# Altium footprint library VioletofSun.PcbLib: 319 footprints (part 3 of 20)
Each footprint in its own frame and in the unit in brackets; x right, y up, seen from the top. Pads: shape width x height; smd on the part's side, far side on the other; paste and mask are expansions set on the pad; w line width, h text height; cw(c..) or ccw(c..) is an arc to the next point about the centre after c.
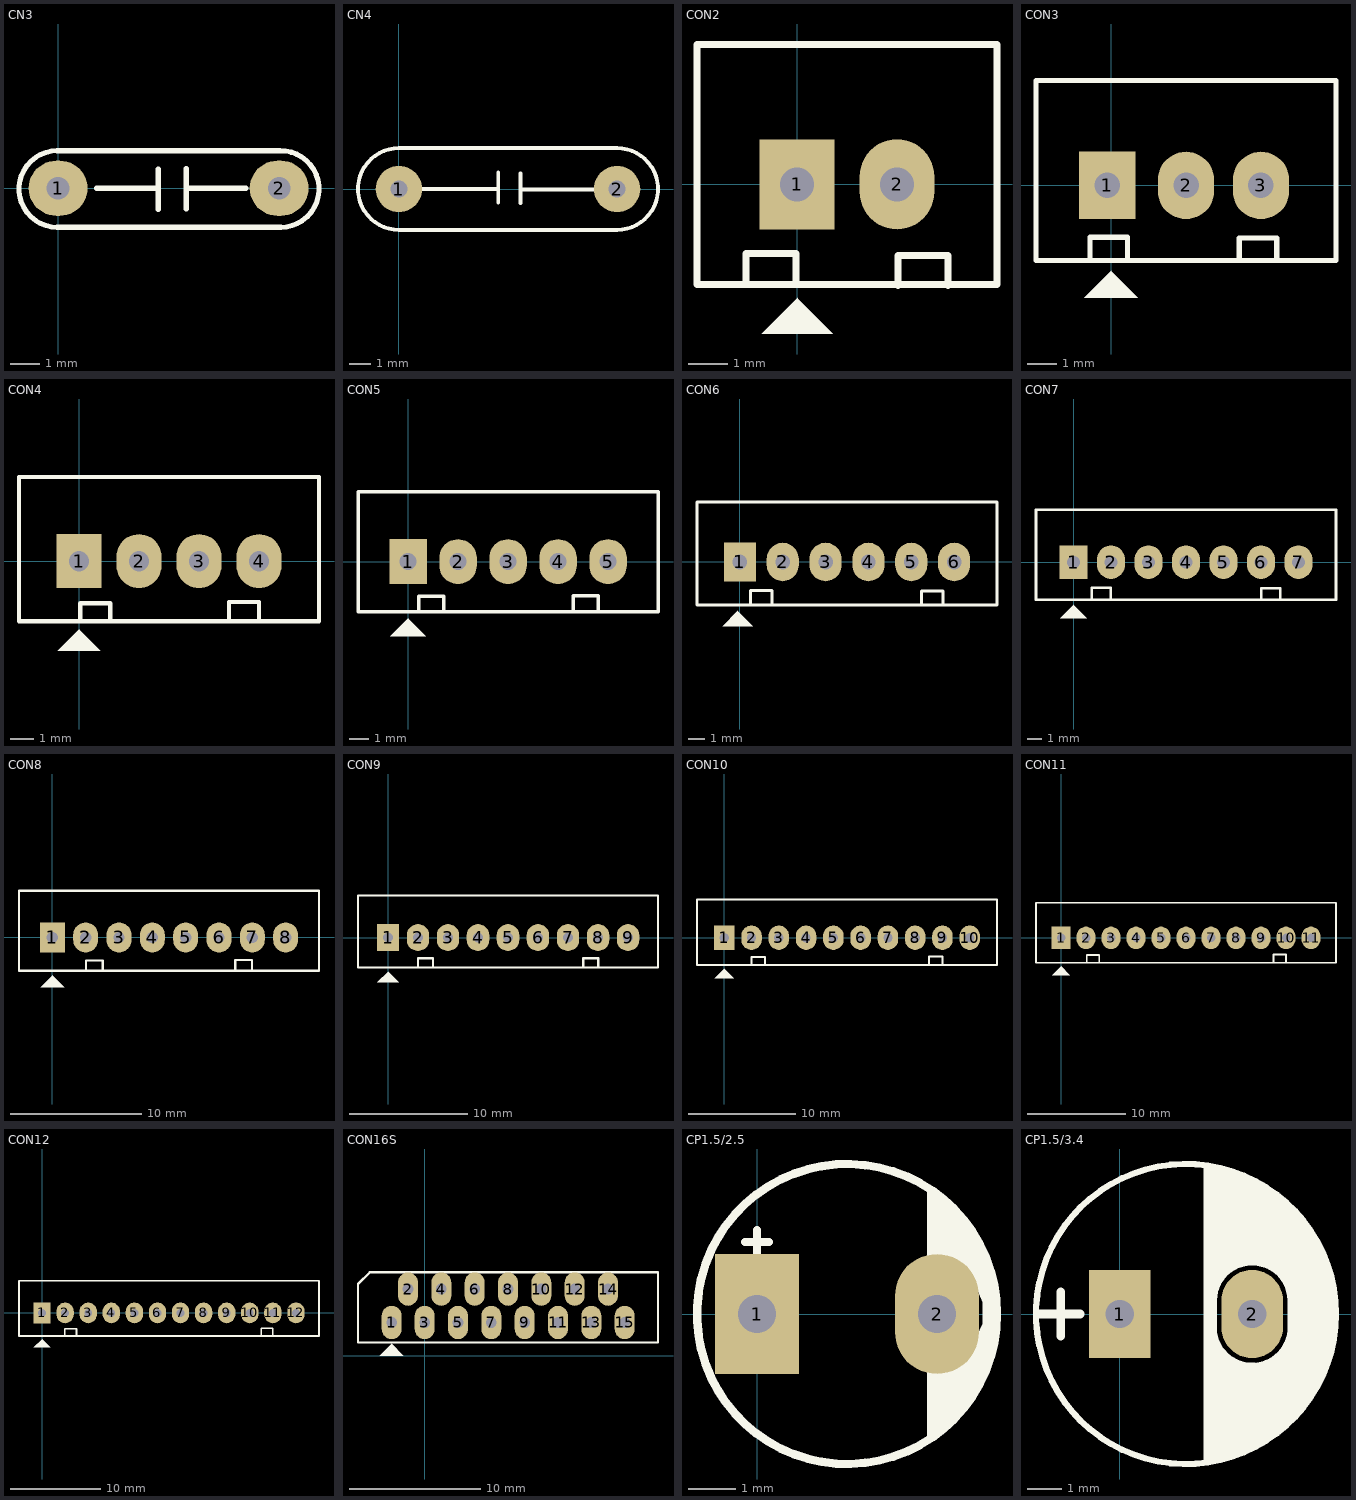
[diagram p2: the footprints below, top view; thin cyan lines are the x and y axes]

## CN3 [mil] "Cap np W 0.3"
height 200
pads (2):
  oval 80x75 hole 31: 1(0,0) 2(300,0)
Top Overlay:
  lines w7: -1,-53 cw(c-1,-1) -1,51 ; 0,51 300,51 ; 1,-53 300,-53 ; 52,0 136,0 ; 136,-29 136,26 ; 174,-28 174,27 ; 174,0 255,0 ; 300.96,50.99 cw(c302,-1) 302,-53
3D body: height 419.15, standoff -100, extent 0,-39.19 315,55

## CN4 [mil] "Cap np W 0.4"
height 200
pads (2):
  round 85 hole 31: 1(0,0) 2(400,0)
Top Overlay:
  lines w7: 44,0 182,0 ; 182,-25 182,30 ; 223,-26 223,29 ; 223,-1 360,-1 ; 399,75 0,75 ccw(c0,0) 0,-75 400,-75 ccw(c400,0) 400,75

## CON2 [mil] "CON2"
height 200
pads (2):
  rect 75x90 hole 34: 1(0,0)
  oval 75x90 hole 34: 2(100,0)
Top Overlay:
  region: -35.5,-149.5 35.5,-149.5 0.5,-114.5 0.5,-113.5
  lines w7: -51,-99 -51,-69 -1,-69 -1,-99 ; 101,-101 101,-71 151,-71 151,-101 ; -100,-100 -100,140 200,140 200,-100 -100,-100
3D body: height 236.22, standoff -75, extent -68.11,-70 168.11,107.17

## CON3 [mil] "CON 3"
height 200
pads (3):
  rect 75x90 hole 34: 1(-5,0)
  oval 75x90 hole 34: 2(100,0) 3(200,0)
Top Overlay:
  region: -35.5,-149.5 35.5,-149.5 0.5,-114.5 0.5,-113.5
  lines w7: -28,-99 -28,-69 22,-69 22,-99 ; 171,-100 171,-70 221,-70 221,-100 ; -100,-100 -100,140 300,140 300,0 300,-100 -100,-100
3D body: height 275.59, standoff -133.86, extent -94.88,-90 294.88,136.38

## CON4 [mil] "CON4"
height 200
pads (4):
  rect 75x90 hole 34: 1(0,0)
  oval 75x90 hole 34: 2(100,0) 3(200,0) 4(300,0)
Top Overlay:
  region: -35.5,-149.5 35.5,-149.5 0.5,-114.5 0.5,-113.5
  lines w7: 2,-100 2,-70 52,-70 52,-100 ; 250,-98 250,-68 300,-68 300,-98 ; -100,-100 -100,140 400,140 400,0 400,-100 -100,-100
3D body: height 275.59, standoff -133.86, extent -90,-90 398.19,136.38

## CON5 [mil] "CON5"
height 200
pads (5):
  rect 75x90 hole 34: 1(0,0)
  oval 75x90 hole 34: 2(100,0) 3(200,0) 4(300,0) 5(400,0)
Top Overlay:
  region: -35.5,-149.5 35.5,-149.5 0.5,-114.5 0.5,-113.5
  lines w7: 21,-99 21,-69 71,-69 71,-99 ; 330,-98 330,-68 380,-68 380,-98 ; -100,-100 -100,140 500,140 500,0 500,-100 -100,-100

## CON6 [mil] "CON6"
height 200
pads (6):
  rect 75x90 hole 34: 1(0,0)
  oval 75x90 hole 34: 2(100,0) 3(200,0) 4(300,0) 5(400,0) 6(500,0)
Top Overlay:
  region: -40.5,-149.5 30.5,-149.5 -4.5,-114.5 -4.5,-113.5
  lines w7: 25,-97 25,-67 75,-67 75,-97 ; 424,-98 424,-68 474,-68 474,-98 ; -100,-100 -100,140 600,140 600,0 600,-100 -100,-100

## CON7 [mil] "CON7"
height 200
pads (7):
  rect 75x90 hole 34: 1(0,0)
  oval 75x90 hole 34: 2(100,0) 3(200,0) 4(300,0) 5(400,0) 6(500,0) 7(600,0)
Top Overlay:
  region: -35.5,-149.5 35.5,-149.5 0.5,-114.5 0.5,-113.5
  lines w7: 49,-98 49,-68 99,-68 99,-98 ; 501,-99 501,-69 551,-69 551,-99 ; -100,-100 -100,140 700,140 700,0 700,-100 -100,-100

## CON8 [mil] "CON8"
height 200
pads (8):
  rect 75x90 hole 34: 1(0,0)
  oval 75x90 hole 34: 2(100,0) 3(200,0) 4(300,0) 5(400,0) 6(500,0) 7(600,0) 8(700,0)
Top Overlay:
  region: -35.5,-149.5 35.5,-149.5 0.5,-114.5 0.5,-113.5
  lines w7: 101,-99 101,-69 151,-69 151,-99 ; 549,-98 549,-68 599,-68 599,-98 ; -100,-100 -100,140 800,140 800,0 800,-100 -100,-100

## CON9 [mil] "CON9"
height 200
pads (9):
  rect 75x90 hole 34: 1(0,0)
  oval 75x90 hole 34: 2(100,0) 3(200,0) 4(300,0) 5(400,0) 6(500,0) 7(600,0) 8(700,0) 9(800,0)
Top Overlay:
  region: -35.5,-149.5 35.5,-149.5 0.5,-114.5 0.5,-113.5
  lines w7: 100,-99 100,-69 150,-69 150,-99 ; 651,-99 651,-69 701,-69 701,-99 ; -100,-100 -100,140 900,140 900,0 900,-100 -100,-100

## CON10 [mil] "CON10"
height 200
pads (10):
  rect 75x90 hole 34: 1(0,0)
  oval 75x90 hole 34: 2(100,0) 3(200,0) 4(300,0) 5(400,0) 6(500,0) 7(600,0) 8(700,0) 9(800,0) 10(900,0)
Top Overlay:
  region: -35.5,-149.5 35.5,-149.5 0.5,-114.5 0.5,-113.5
  lines w7: 100,-100 100,-70 150,-70 150,-100 ; 750,-99 750,-69 800,-69 800,-99 ; -100,-100 -100,140 1000,140 1000,0 1000,-100 -100,-100

## CON11 [mil] "CON11"
height 200
pads (11):
  rect 75x90 hole 34: 1(0,0)
  oval 75x90 hole 34: 2(100,0) 3(200,0) 4(300,0) 5(400,0) 6(500,0) 7(600,0) 8(700,0) 9(800,0) 10(900,0) 11(1000,0)
Top Overlay:
  region: -35.5,-149.5 35.5,-149.5 0.5,-114.5 0.5,-113.5
  lines w7: 103,-99 103,-69 153,-69 153,-99 ; 850,-97 850,-67 900,-67 900,-97 ; -100,-100 -100,140 1100,140 1100,0 1100,-100 -100,-100

## CON12 [mil] "CON12"
height 200
pads (12):
  rect 75x90 hole 34: 1(0,0)
  oval 75x90 hole 34: 2(100,0) 3(200,0) 4(300,0) 5(400,0) 6(500,0) 7(600,0) 8(700,0) 9(800,0) 10(900,0) 11(1000,0) 12(1100,0)
Top Overlay:
  region: -35.5,-149.5 35.5,-149.5 0.5,-114.5 0.5,-113.5
  lines w7: 99,-99 99,-69 149,-69 149,-99 ; 950,-97 950,-67 1000,-67 1000,-97 ; -100,-100 1200,-100 1200,0 1200,140 -100,140 -100,-100

## CON16S [mil] "Jam 16S"
pads (15):
  oval 60x100 hole 32: 1(-99,100) 2(-50,200) 3(0,100) 4(50,200) 5(100,100) 6(150,200) 7(200,100) 8(250,200) 9(300,100) 10(350,200) 11(400,100) 12(450,200) 13(500,100) 14(550,200) 15(600,100)
Top Overlay:
  region: -135.5,0.5 -64.5,0.5 -99.5,35.5 -99.5,36.5
  lines w7: -200,40 -200,215 -165,250 700,250 700,40 -200,40

## CP1.5/2.5 [mil] "Tu hoa 33 >100 uF,50V, 220uF/16V,25V ( it su dung )"
height 300
pads (2):
  rect 70x100 hole 32: 1(0,0)
  oval 70x100 hole 32: 2(150,0)
Top Overlay:
  circle w7: c75,0 r125
  region: 142,106 142,39 156,39 173,35 182,25 188,10 188,-8 183,-19 183,-19.53 171,-33 155,-38 142,-41 142,-107 156,-96 177,-72 194,-40 199,-14 200,0 198,24 189,50 175,74 160,93
  lines w7: -10,60 10,60 ; 0,50 0,70
3D body: height 421.54, standoff -759.57, extent -49.02,-125.03 199.02,123

## CP1.5/3.4 [mil] "Tu hoa 220->470uF,16V, 470uF/16V,25V"
height 300
pads (2):
  rect 70x100 hole 32: 1(0,0)
  oval 70x100 hole 32: 2(150,0)
Top Overlay:
  circle w7: c75,0 r170
  region: 100,25 135,60 162.93,60.33 169.59,59.01 175.24,55.24 175,55 181.63,48.7 184.3,44.71 185.24,40 185,40 190.24,35.24 194.01,29.59 195.33,22.93 195,22.93 195.33,-27.93 194.01,-34.59 190.24,-40.24 190,-40 178.7,-51.63 174.71,-54.3 170,-55.24 170.24,-55.24 164.59,-59.01 157.93,-60.33 157.93,-60 144.14,-60.29 135.23,-59.12 126.92,-55.68 119.79,-50.21 120,-50 108.37,-38.7 105.7,-34.71 104.76,-30 105,-30 100,-30 100,-170 155,-150 195,-120 225,-80 245,-20 245,20 230,70 200,115 165,145 120,165 100,170
  lines w10: -90,0 -45,0 ; -67,-25 -67,25 ; 100,-165 100,165 ; 100,25 105,25 ; 105,-20 105,30 ; 105,-10 ccw(c150,-15) 145,-60 ccw(c150,-15) 195,-20 195,15 ccw(c150,15) 150,60 ccw(c150,15) 105,15
3D body: height 445.89, standoff -754.41, extent -84.96,-157.48 230,157.48